# Altium footprint library Library_v2.PcbLib: 1 footprints
Each footprint in its own frame and in the unit in brackets; x right, y up, seen from the top. Pads: shape width x height; smd on the part's side, far side on the other; paste and mask are expansions set on the pad; w line width, h text height; cw(c..) or ccw(c..) is an arc to the next point about the centre after c.
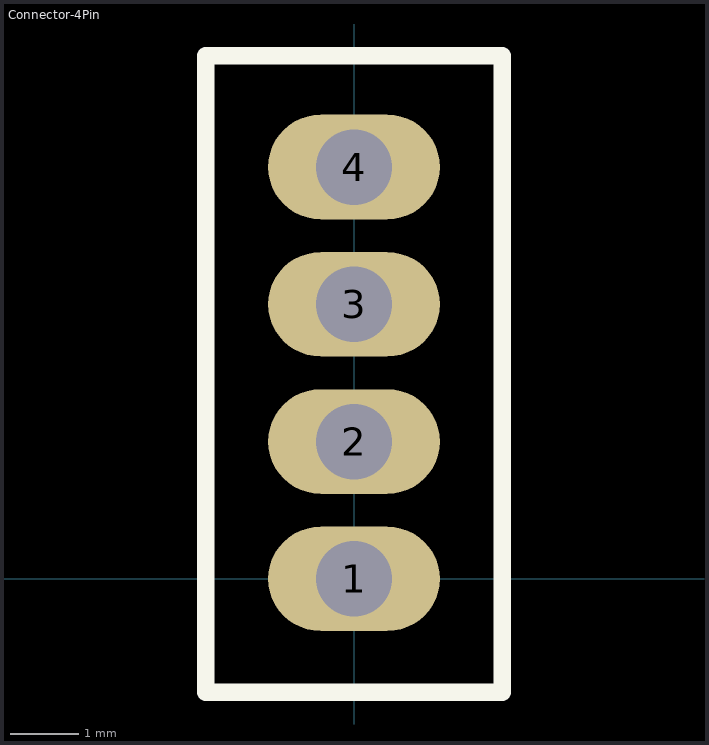
[diagram p0: the footprint, top view; thin cyan lines are the x and y axes]

## Connector-4Pin [mm]
pads (4):
  oval 2.5x1.524 hole 1.1: 1(0,0) 2(0,2) 3(0,4) 4(0,6)
Top Overlay:
  lines w0.254: -2.159,-1.651 2.159,-1.651 2.159,7.62 -2.159,7.62 -2.159,-1.651